# EAGLE library part FT231XS-U (library FT231XS)
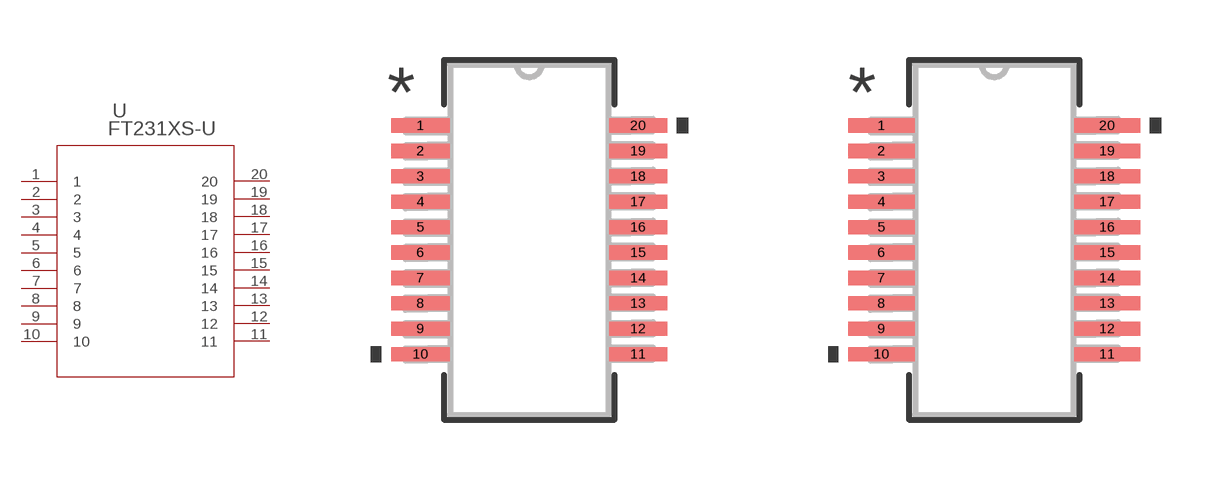
[diagram p0: symbol with the pads of FT231XS-U_FTD; footprints FT231XS-U_FTD, FT231XS-U_FTD-M]

Designator prefix U

## FT231XS-U (COPYRIGHT: Copyright (C) 2023 Ultra Librarian. All rights reserved.; MANUFACTURER_PART_NUMBER: FT231XS-U; MFR_NAME: FTDI, Future Technology Devices International Ltd)  [FT231XS-U_FTD]
1  1  pas
2  2  pas
3  3  pas
4  4  pas
5  5  pas
6  6  pas
7  7  pas
8  8  pas
9  9  pas
10  10  pas
11  11  pas
12  12  pas
13  13  pas
14  14  pas
15  15  pas
16  16  pas
17  17  pas
18  18  pas
19  19  pas
20  20  pas

## FT231XS-UFT231XS-U_FTD-M (COPYRIGHT: Copyright (C) 2023 Ultra Librarian. All rights reserved.; MANUFACTURER_PART_NUMBER: FT231XS-U; MFR_NAME: FTDI, Future Technology Devices International Ltd)  [FT231XS-U_FTD-M]
Pads as for FT231XS-U_FTD

## FT231XS-UFT231XS-U_FTD-L (COPYRIGHT: Copyright (C) 2023 Ultra Librarian. All rights reserved.; MANUFACTURER_PART_NUMBER: FT231XS-U; MFR_NAME: FTDI, Future Technology Devices International Ltd)  [FT231XS-U_FTD-L]
Pads as for FT231XS-U_FTD

## Footprint FT231XS-U_FTD (pad centres in mm)
smd 1.455 x 0.355: 1 -2.721,2.857; 2 -2.721,2.223; 3 -2.721,1.587; 4 -2.721,0.953; 5 -2.721,0.318; 6 -2.721,-0.318; 7 -2.721,-0.953; 8 -2.721,-1.587; 9 -2.721,-2.223; 10 -2.721,-2.857; 11 2.721,-2.857; 12 2.721,-2.223; 13 2.721,-1.587; 14 2.721,-0.953; 15 2.721,-0.318; 16 2.721,0.318; 17 2.721,0.953; 18 2.721,1.587; 19 2.721,2.223; 20 2.721,2.857

## Footprint FT231XS-U_FTD-M (pad centres in mm)
smd 1.655 x 0.355: 1 -2.821,2.857; 2 -2.821,2.223; 3 -2.821,1.587; 4 -2.821,0.953; 5 -2.821,0.318; 6 -2.821,-0.318; 7 -2.821,-0.953; 8 -2.821,-1.587; 9 -2.821,-2.223; 10 -2.821,-2.857; 11 2.821,-2.857; 12 2.821,-2.223; 13 2.821,-1.587; 14 2.821,-0.953; 15 2.821,-0.318; 16 2.821,0.318; 17 2.821,0.953; 18 2.821,1.587; 19 2.821,2.223; 20 2.821,2.857

## Footprint FT231XS-U_FTD-L (pad centres in mm)
smd 1.255 x 0.305: 1 -2.621,2.857; 2 -2.621,2.223; 3 -2.621,1.587; 4 -2.621,0.953; 5 -2.621,0.318; 6 -2.621,-0.318; 7 -2.621,-0.953; 8 -2.621,-1.587; 9 -2.621,-2.223; 10 -2.621,-2.857; 11 2.621,-2.857; 12 2.621,-2.223; 13 2.621,-1.587; 14 2.621,-0.953; 15 2.621,-0.318; 16 2.621,0.318; 17 2.621,0.953; 18 2.621,1.587; 19 2.621,2.223; 20 2.621,2.857